# Altium footprint library TI Amplifiers and Linear Special Function Amplifier.PcbLib: 176 footprints (part 6 of 12)
Each footprint in its own frame and in the unit in brackets; x right, y up, seen from the top. Pads: shape width x height; smd on the part's side, far side on the other; paste and mask are expansions set on the pad; w line width, h text height; cw(c..) or ccw(c..) is an arc to the next point about the centre after c.
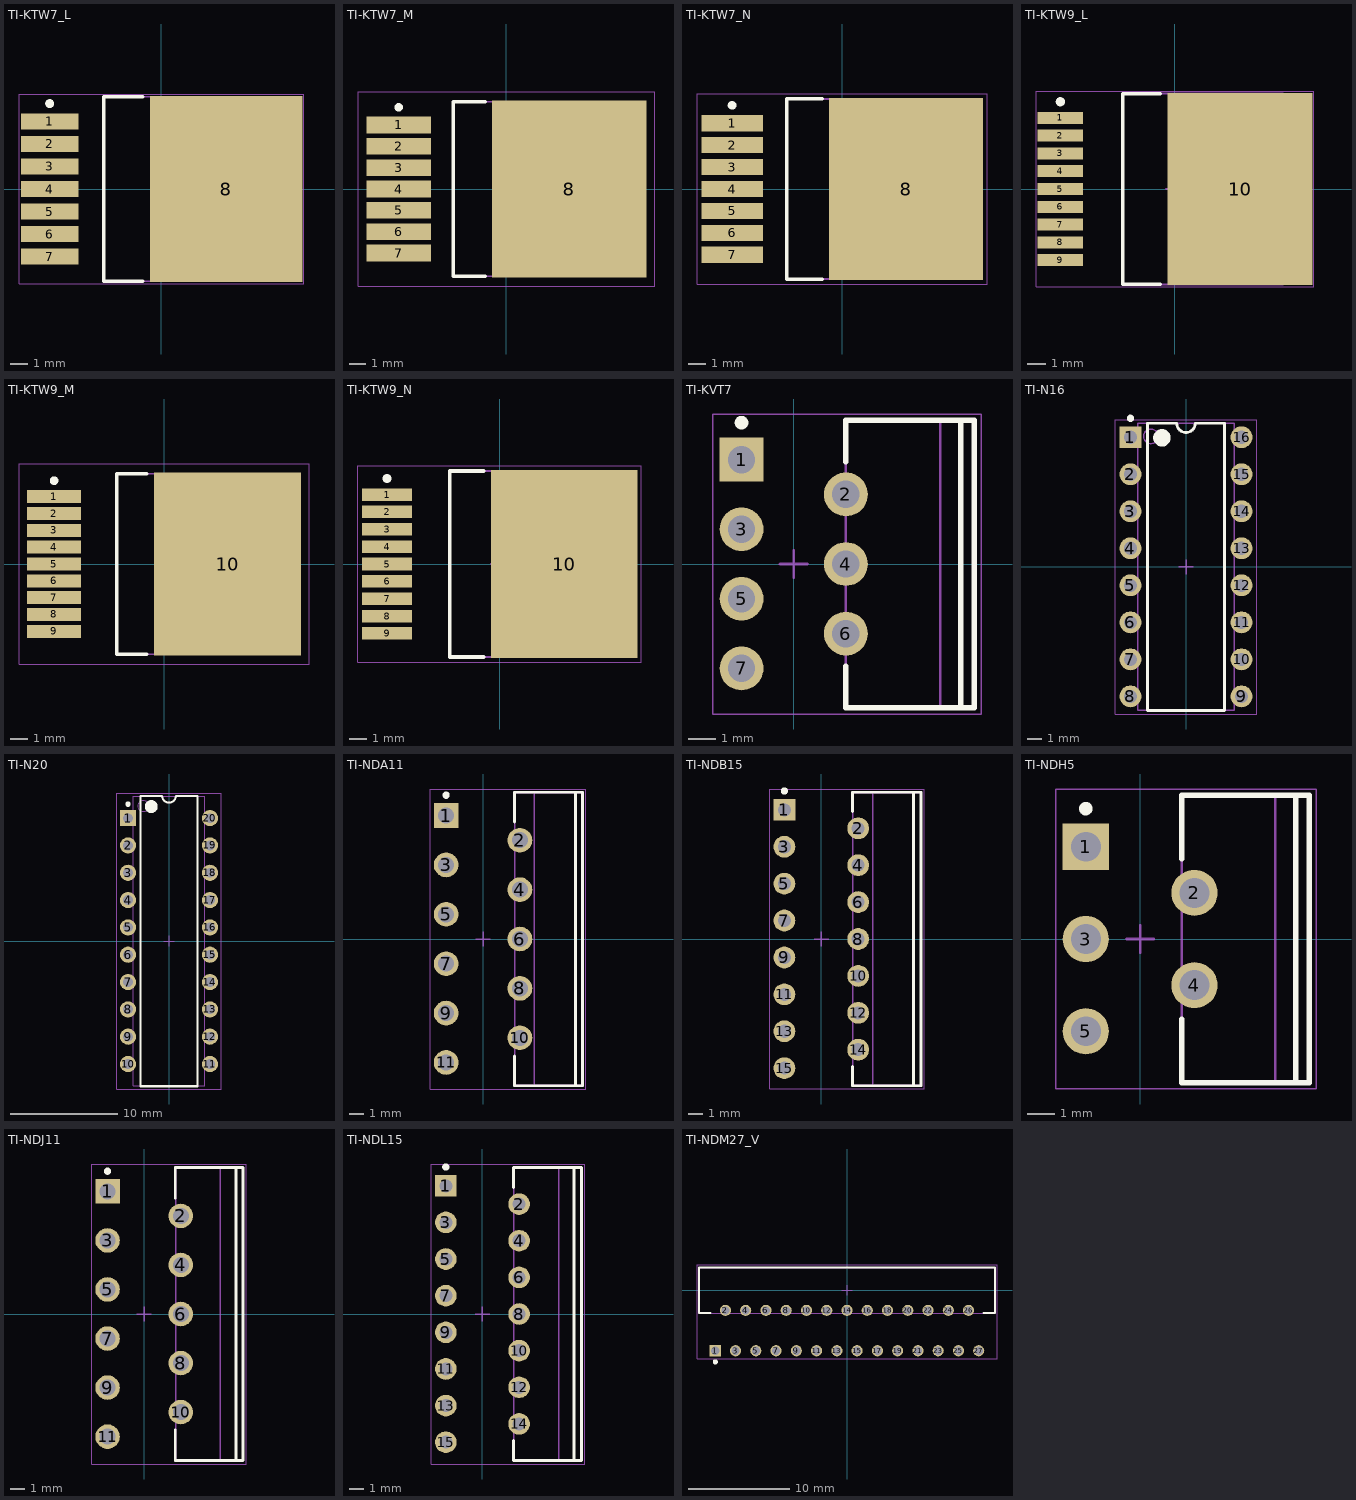
[diagram p5: the footprints below, top view; thin cyan lines are the x and y axes]

## TI-KTW7_L [mm] "DPAK, 7-Leads, Body 9.4x10.4mm, Pitch 1.27mm, IPC High Density"
height 4.96
pads (8):
  rect 3.25x0.9 smd: 1(-6.3,3.81) 2(-6.3,2.54) 3(-6.3,1.27) 4(-6.3,0) 5(-6.3,-1.27) 6(-6.3,-2.54) 7(-6.3,-3.81)
  rect 8.6x10.45 smd: 8(3.65,0)
Top Overlay:
  circle w0.25: c-6.3,4.81 r0.125
  lines w0.2: -1.05,-5.2 -3.25,-5.2 -3.25,5.2 -1.05,5.2
Mechanical 13:
  lines w0.1: -3.25,-5.2 6.15,-5.2 6.15,5.2 -3.25,5.2 -3.25,-5.2
Mechanical 15:
  lines w0.05: -8.025,-5.325 8.025,-5.325 8.025,5.325 -8.025,5.325 -8.025,-5.325
  lines w0.1: -0.5,0 0.5,0 ; 0,-0.5 0,0.5
3D body: height 4.96, standoff 0, extent -3.25,-5.2 6.15,5.2

## TI-KTW7_M [mm] "DPAK, 7-Leads, Body 9.4x10.4mm, Pitch 1.27mm, IPC Low Density"
height 4.96
pads (8):
  rect 3.85x1 smd: 1(-6.4,3.81) 2(-6.4,2.54) 3(-6.4,1.27) 4(-6.4,0) 5(-6.4,-1.27) 6(-6.4,-2.54) 7(-6.4,-3.81)
  rect 9.2x10.55 smd: 8(3.75,0)
Top Overlay:
  circle w0.25: c-6.4,4.86 r0.125
  lines w0.2: -1.25,-5.2 -3.15,-5.2 -3.15,5.2 -1.25,5.2
Mechanical 13:
  lines w0.1: -3.15,-5.2 6.25,-5.2 6.25,5.2 -3.15,5.2 -3.15,-5.2
Mechanical 15:
  lines w0.05: -8.825,-5.775 8.825,-5.775 8.825,5.775 -8.825,5.775 -8.825,-5.775
  lines w0.1: -0.5,0 0.5,0 ; 0,-0.5 0,0.5
3D body: height 4.96, standoff 0, extent -3.15,-5.2 6.25,5.2

## TI-KTW7_N [mm] "DPAK, 7-Leads, Body 9.4x10.4mm, Pitch 1.27mm, IPC Medium Density"
height 4.96
pads (8):
  rect 3.55x0.95 smd: 1(-6.35,3.81) 2(-6.35,2.54) 3(-6.35,1.27) 4(-6.35,0) 5(-6.35,-1.27) 6(-6.35,-2.54) 7(-6.35,-3.81)
  rect 8.9x10.5 smd: 8(3.7,0)
Top Overlay:
  circle w0.25: c-6.35,4.835 r0.125
  lines w0.2: -1.15,-5.2 -3.2,-5.2 -3.2,5.2 -1.15,5.2
Mechanical 13:
  lines w0.1: -3.2,-5.2 -3.2,5.2 6.2,5.2 6.2,-5.2 -3.2,-5.2
Mechanical 15:
  lines w0.05: -8.375,-5.5 -8.375,5.5 8.375,5.5 8.375,-5.5 -8.375,-5.5
  lines w0.1: -0.5,0 0.5,0 ; 0,-0.5 0,0.5
3D body: height 4.96, standoff 0, extent -3.2,-5.2 6.2,5.2

## TI-KTW9_L [mm] "DPAK, 9-Leads, Body 10.16x8.69mm, Pitch 0.97mm, IPC High Density"
height 4.74
pads (10):
  rect 2.5x0.65 smd: 1(-6.25,3.88) 2(-6.25,2.91) 3(-6.25,1.94) 4(-6.25,0.97) 5(-6.25,0) 6(-6.25,-0.97) 7(-6.25,-1.94) 8(-6.25,-2.91) 9(-6.25,-3.88)
  rect 7.9x10.45 smd: 10(3.55,0)
Top Overlay:
  circle w0.25: c-6.25,4.755 r0.125
  lines w0.2: -0.8,-5.2 -2.85,-5.2 -2.85,5.2 -0.8,5.2
Mechanical 13:
  lines w0.1: -2.85,-5.2 -2.85,5.2 5.89,5.2 5.89,-5.2 -2.85,-5.2
Mechanical 15:
  lines w0.05: -7.575,-5.325 -7.575,5.325 7.575,5.325 7.575,-5.325 -7.575,-5.325
  lines w0.1: -0.5,0 0.5,0 ; 0,-0.5 0,0.5
3D body: height 4.74, standoff 0, extent -2.85,-5.2 5.89,5.2

## TI-KTW9_M [mm] "DPAK, 9-Leads, Body 10.16x8.69mm, Pitch 0.97mm, IPC Low Density"
height 4.74
pads (10):
  rect 3.1x0.75 smd: 1(-6.35,3.88) 2(-6.35,2.91) 3(-6.35,1.94) 4(-6.35,0.97) 5(-6.35,0) 6(-6.35,-0.97) 7(-6.35,-1.94) 8(-6.35,-2.91) 9(-6.35,-3.88)
  rect 8.5x10.55 smd: 10(3.65,0)
Top Overlay:
  circle w0.25: c-6.35,4.805 r0.125
  lines w0.2: -1,-5.2 -2.75,-5.2 -2.75,5.2 -1,5.2
Mechanical 13:
  lines w0.1: -2.75,-5.2 -2.75,5.2 5.99,5.2 5.99,-5.2 -2.75,-5.2
Mechanical 15:
  lines w0.05: -8.375,-5.775 -8.375,5.775 8.375,5.775 8.375,-5.775 -8.375,-5.775
  lines w0.1: -0.5,0 0.5,0 ; 0,-0.5 0,0.5
3D body: height 4.74, standoff 0, extent -2.75,-5.2 5.99,5.2

## TI-KTW9_N [mm] "DPAK, 9-Leads, Body 10.16x8.69mm, Pitch 0.97mm, IPC Medium Density"
height 4.74
pads (10):
  rect 2.8x0.7 smd: 1(-6.3,3.88) 2(-6.3,2.91) 3(-6.3,1.94) 4(-6.3,0.97) 5(-6.3,0) 6(-6.3,-0.97) 7(-6.3,-1.94) 8(-6.3,-2.91) 9(-6.3,-3.88)
  rect 8.2x10.5 smd: 10(3.6,0)
Top Overlay:
  circle w0.25: c-6.3,4.78 r0.125
  lines w0.2: -0.9,-5.2 -2.8,-5.2 -2.8,5.2 -0.9,5.2
Mechanical 13:
  lines w0.1: -2.8,-5.2 -2.8,5.2 5.94,5.2 5.94,-5.2 -2.8,-5.2
Mechanical 15:
  lines w0.05: -7.925,-5.5 -7.925,5.5 7.925,5.5 7.925,-5.5 -7.925,-5.5
  lines w0.1: -0.5,0 0.5,0 ; 0,-0.5 0,0.5
3D body: height 4.74, standoff 0, extent -2.8,-5.2 5.94,5.2

## TI-KVT7 [mm] "FM, 7-Leads, Body 10.41 x 4.7mm, Pitch 1.27 mm"
height 21.43
pads (7):
  rect 1.6x1.6 hole 1: 1(-1.905,3.81)
  round 1.6 hole 1: 2(1.905,2.54) 3(-1.905,1.27) 4(1.905,0) 5(-1.905,-1.27) 6(1.905,-2.54) 7(-1.905,-3.81)
Top Overlay:
  circle w0.25: c-1.905,5.16 r0.125
  lines w0.2: 1.895,-3.74 1.895,-5.25 6.595,-5.25 6.595,5.25 1.895,5.25 1.895,3.74 ; 6.095,-5.25 6.095,5.25
Mechanical 13:
  lines w0.1: 5.345,-5.205 5.345,5.205 ; 1.895,-5.205 1.895,5.205 6.595,5.205 6.595,-5.205 1.895,-5.205
Mechanical 15:
  lines w0.05: -2.955,-5.475 -2.955,5.475 6.845,5.475 6.845,-5.475 -2.955,-5.475
  lines w0.1: -0.5,0 0.5,0 ; 0,-0.5 0,0.5
3D body: height 2.43, standoff 0, extent -2.15,3.26 -1.66,4.36
3D body: height 2.92, standoff 2.43, extent -2.15,3.26 4.49,4.36
3D body: height 5.34, standoff 2.92, extent 4,3.26 4.49,4.36
3D body: height 0, standoff -1.6, extent -2.15,3.415 -1.66,4.205
3D body: height 2.43, standoff 0, extent 1.66,1.99 2.15,3.09
3D body: height 2.92, standoff 2.43, extent 1.66,1.99 4.49,3.09
3D body: height 5.34, standoff 2.92, extent 4,1.99 4.49,3.09
3D body: height 0, standoff -1.6, extent 1.66,2.145 2.15,2.935
3D body: height 2.43, standoff 0, extent -2.15,0.72 -1.66,1.82
3D body: height 2.92, standoff 2.43, extent -2.15,0.72 4.49,1.82
3D body: height 5.34, standoff 2.92, extent 4,0.72 4.49,1.82
3D body: height 0, standoff -1.6, extent -2.15,0.875 -1.66,1.665
3D body: height 2.43, standoff 0, extent 1.66,-0.55 2.15,0.55
3D body: height 2.92, standoff 2.43, extent 1.66,-0.55 4.49,0.55
3D body: height 5.34, standoff 2.92, extent 4,-0.55 4.49,0.55
3D body: height 0, standoff -1.6, extent 1.66,-0.395 2.15,0.395
3D body: height 2.43, standoff 0, extent -2.15,-1.82 -1.66,-0.72
3D body: height 2.92, standoff 2.43, extent -2.15,-1.82 4.49,-0.72
3D body: height 5.34, standoff 2.92, extent 4,-1.82 4.49,-0.72
3D body: height 0, standoff -1.6, extent -2.15,-1.665 -1.66,-0.875
3D body: height 2.43, standoff 0, extent 1.66,-3.09 2.15,-1.99
3D body: height 2.92, standoff 2.43, extent 1.66,-3.09 4.49,-1.99
3D body: height 5.34, standoff 2.92, extent 4,-3.09 4.49,-1.99
3D body: height 0, standoff -1.6, extent 1.66,-2.935 2.15,-2.145
3D body: height 2.43, standoff 0, extent -2.15,-4.36 -1.66,-3.26
3D body: height 2.92, standoff 2.43, extent -2.15,-4.36 4.49,-3.26
3D body: height 5.34, standoff 2.92, extent 4,-4.36 4.49,-3.26
3D body: height 0, standoff -1.6, extent -2.15,-4.205 -1.66,-3.415
3D body: height 15.18, standoff 5.34, extent 1.895,-5.225 6.595,5.225
3D body: height 16.76, standoff 15.18, extent 5.345,-5.075 6.595,5.075
3D body: height 16.8, standoff 16.76, extent 5.345,0.376 6.595,5.075
3D body: height 16.8, standoff 16.76, extent 5.345,-5.075 6.595,-0.376
3D body: height 20.61, standoff 20.57, extent 5.345,0.376 6.595,5.075
3D body: height 20.61, standoff 20.57, extent 5.345,-5.075 6.595,-0.376
3D body: height 16.91, standoff 16.79, extent 5.345,0.737 6.595,5.075
3D body: height 16.91, standoff 16.79, extent 5.345,-5.075 6.595,-0.737
3D body: height 20.57, standoff 20.46, extent 5.345,0.737 6.595,5.075
3D body: height 20.57, standoff 20.46, extent 5.345,-5.075 6.595,-0.737
3D body: height 17.08, standoff 16.9, extent 5.345,1.069 6.595,5.075
3D body: height 17.08, standoff 16.9, extent 5.345,-5.075 6.595,-1.069
3D body: height 20.46, standoff 20.28, extent 5.345,1.069 6.595,5.075
3D body: height 20.46, standoff 20.28, extent 5.345,-5.075 6.595,-1.069
3D body: height 17.32, standoff 17.08, extent 5.345,1.361 6.595,5.075
3D body: height 17.32, standoff 17.08, extent 5.345,-5.075 6.595,-1.361
3D body: height 20.29, standoff 20.04, extent 5.345,1.361 6.595,5.075
3D body: height 20.29, standoff 20.04, extent 5.345,-5.075 6.595,-1.361
3D body: height 17.62, standoff 17.32, extent 5.345,1.601 6.595,5.075
3D body: height 17.62, standoff 17.32, extent 5.345,-5.075 6.595,-1.601
3D body: height 20.05, standoff 19.75, extent 5.345,1.601 6.595,5.075
3D body: height 20.05, standoff 19.75, extent 5.345,-5.075 6.595,-1.601
3D body: height 17.95, standoff 17.61, extent 5.345,1.778 6.595,5.075
3D body: height 17.95, standoff 17.61, extent 5.345,-5.075 6.595,-1.778
3D body: height 19.75, standoff 19.42, extent 5.345,1.778 6.595,5.075
3D body: height 19.75, standoff 19.42, extent 5.345,-5.075 6.595,-1.778
3D body: height 18.31, standoff 17.94, extent 5.345,1.888 6.595,5.075
3D body: height 18.31, standoff 17.94, extent 5.345,-5.075 6.595,-1.888
3D body: height 19.42, standoff 19.06, extent 5.345,1.888 6.595,5.075
3D body: height 19.42, standoff 19.06, extent 5.345,-5.075 6.595,-1.888
3D body: height 18.68, standoff 18.3, extent 5.345,1.925 6.595,5.075
3D body: height 18.68, standoff 18.3, extent 5.345,-5.075 6.595,-1.925
3D body: height 19.06, standoff 18.68, extent 5.345,1.925 6.595,5.075
3D body: height 19.06, standoff 18.68, extent 5.345,-5.075 6.595,-1.925
3D body: height 21.43, standoff 20.61, extent 5.345,-5.075 6.595,5.075

## TI-N16 [mm] "DIP, 16-Leads, Body 19.7x6.6mm, Pitch 2.54mm"
height 5.08
pads (16):
  rect 1.5x1.5 hole 0.9: 1(-3.81,8.89)
  round 1.5 hole 0.9: 2(-3.81,6.35) 3(-3.81,3.81) 4(-3.81,1.27) 5(-3.81,-1.27) 6(-3.81,-3.81) 7(-3.81,-6.35) 8(-3.81,-8.89) 9(3.81,-8.89) 10(3.81,-6.35) 11(3.81,-3.81) 12(3.81,-1.27) 13(3.81,1.27) 14(3.81,3.81) 15(3.81,6.35) 16(3.81,8.89)
Top Overlay:
  circle w0.25: c-3.81,10.19 r0.125
  circle w0.6: c-1.65,8.85 r0.3
  lines w0.2: -2.65,-9.85 -2.65,9.85 -0.635,9.85 ccw(c0,9.85) 0.635,9.85 2.65,9.85 2.65,-9.85 -2.65,-9.85
Mechanical 13:
  circle w0.1: c-2.4,8.95 r0.5
  lines w0.1: -3.3,-9.85 -3.3,9.85 3.3,9.85 3.3,-9.85 -3.3,-9.85
Mechanical 15:
  lines w0.05: -4.85,-10.1 -4.85,10.1 4.85,10.1 4.85,-10.1 -4.85,-10.1
  lines w0.1: -0.5,0 0.5,0 ; 0,-0.5 0,0.5
3D body: height 2.66, standoff 0, extent -3.945,8.39 -3.675,9.39
3D body: height 2.93, standoff 2.66, extent -3.945,8.39 -3.3,9.39
3D body: height 0, standoff -1.6, extent -3.945,8.53 -3.675,9.25
3D body: height 2.66, standoff 0, extent -3.945,5.85 -3.675,6.85
3D body: height 2.93, standoff 2.66, extent -3.945,5.85 -3.3,6.85
3D body: height 0, standoff -1.6, extent -3.945,5.99 -3.675,6.71
3D body: height 2.66, standoff 0, extent -3.945,3.31 -3.675,4.31
3D body: height 2.93, standoff 2.66, extent -3.945,3.31 -3.3,4.31
3D body: height 0, standoff -1.6, extent -3.945,3.45 -3.675,4.17
3D body: height 2.66, standoff 0, extent -3.945,0.77 -3.675,1.77
3D body: height 2.93, standoff 2.66, extent -3.945,0.77 -3.3,1.77
3D body: height 0, standoff -1.6, extent -3.945,0.91 -3.675,1.63
3D body: height 2.66, standoff 0, extent -3.945,-1.77 -3.675,-0.77
3D body: height 2.93, standoff 2.66, extent -3.945,-1.77 -3.3,-0.77
3D body: height 0, standoff -1.6, extent -3.945,-1.63 -3.675,-0.91
3D body: height 2.66, standoff 0, extent -3.945,-4.31 -3.675,-3.31
3D body: height 2.93, standoff 2.66, extent -3.945,-4.31 -3.3,-3.31
3D body: height 0, standoff -1.6, extent -3.945,-4.17 -3.675,-3.45
3D body: height 2.66, standoff 0, extent -3.945,-6.85 -3.675,-5.85
3D body: height 2.93, standoff 2.66, extent -3.945,-6.85 -3.3,-5.85
3D body: height 0, standoff -1.6, extent -3.945,-6.71 -3.675,-5.99
3D body: height 2.66, standoff 0, extent -3.945,-9.39 -3.675,-8.39
3D body: height 2.93, standoff 2.66, extent -3.945,-9.39 -3.3,-8.39
3D body: height 0, standoff -1.6, extent -3.945,-9.25 -3.675,-8.53
3D body: height 2.66, standoff 0, extent 3.675,-9.39 3.945,-8.39
3D body: height 2.93, standoff 2.66, extent 3.3,-9.39 3.945,-8.39
3D body: height 0, standoff -1.6, extent 3.675,-9.25 3.945,-8.53
3D body: height 2.66, standoff 0, extent 3.675,-6.85 3.945,-5.85
3D body: height 2.93, standoff 2.66, extent 3.3,-6.85 3.945,-5.85
3D body: height 0, standoff -1.6, extent 3.675,-6.71 3.945,-5.99
3D body: height 2.66, standoff 0, extent 3.675,-4.31 3.945,-3.31
3D body: height 2.93, standoff 2.66, extent 3.3,-4.31 3.945,-3.31
3D body: height 0, standoff -1.6, extent 3.675,-4.17 3.945,-3.45
3D body: height 2.66, standoff 0, extent 3.675,-1.77 3.945,-0.77
3D body: height 2.93, standoff 2.66, extent 3.3,-1.77 3.945,-0.77
3D body: height 0, standoff -1.6, extent 3.675,-1.63 3.945,-0.91
3D body: height 2.66, standoff 0, extent 3.675,0.77 3.945,1.77
3D body: height 2.93, standoff 2.66, extent 3.3,0.77 3.945,1.77
3D body: height 0, standoff -1.6, extent 3.675,0.91 3.945,1.63
3D body: height 2.66, standoff 0, extent 3.675,3.31 3.945,4.31
3D body: height 2.93, standoff 2.66, extent 3.3,3.31 3.945,4.31
3D body: height 0, standoff -1.6, extent 3.675,3.45 3.945,4.17
3D body: height 2.66, standoff 0, extent 3.675,5.85 3.945,6.85
3D body: height 2.93, standoff 2.66, extent 3.3,5.85 3.945,6.85
3D body: height 0, standoff -1.6, extent 3.675,5.99 3.945,6.71
3D body: height 2.66, standoff 0, extent 3.675,8.39 3.945,9.39
3D body: height 2.93, standoff 2.66, extent 3.3,8.39 3.945,9.39
3D body: height 0, standoff -1.6, extent 3.675,8.53 3.945,9.25
3D body: height 5.08, standoff 0.51, extent -3.3,-9.85 3.3,9.85

## TI-N20 [mm] "DIP, 20-Leads, Body 25.4x6.35 mm, Pitch 2.54 mm"
height 5.08
pads (20):
  rect 1.5x1.5 hole 0.9: 1(-3.81,11.43)
  round 1.5 hole 0.9: 2(-3.81,8.89) 3(-3.81,6.35) 4(-3.81,3.81) 5(-3.81,1.27) 6(-3.81,-1.27) 7(-3.81,-3.81) 8(-3.81,-6.35) 9(-3.81,-8.89) 10(-3.81,-11.43) 11(3.81,-11.43) 12(3.81,-8.89) 13(3.81,-6.35) 14(3.81,-3.81) 15(3.81,-1.27) 16(3.81,1.27) 17(3.81,3.81) 18(3.81,6.35) 19(3.81,8.89) 20(3.81,11.43)
Top Overlay:
  circle w0.25: c-3.81,12.73 r0.125
  circle w0.6: c-1.65,12.5 r0.3
  lines w0.2: -2.65,-13.5 -2.65,13.5 -0.635,13.5 ccw(c0,13.5) 0.635,13.5 2.65,13.5 2.65,-13.5 -2.65,-13.5
Mechanical 13:
  circle w0.1: c-2.4,12.55 r0.5
  lines w0.1: -3.3,-13.45 -3.3,13.45 3.3,13.45 3.3,-13.45 -3.3,-13.45
Mechanical 15:
  lines w0.05: -4.85,-13.75 -4.85,13.75 4.85,13.75 4.85,-13.75 -4.85,-13.75
  lines w0.1: -0.5,0 0.5,0 ; 0,-0.5 0,0.5
3D body: height 2.66, standoff 0, extent -3.945,10.93 -3.675,11.93
3D body: height 2.93, standoff 2.66, extent -3.945,10.93 -3.3,11.93
3D body: height 0, standoff -1.6, extent -3.945,11.07 -3.675,11.79
3D body: height 2.66, standoff 0, extent -3.945,8.39 -3.675,9.39
3D body: height 2.93, standoff 2.66, extent -3.945,8.39 -3.3,9.39
3D body: height 0, standoff -1.6, extent -3.945,8.53 -3.675,9.25
3D body: height 2.66, standoff 0, extent -3.945,5.85 -3.675,6.85
3D body: height 2.93, standoff 2.66, extent -3.945,5.85 -3.3,6.85
3D body: height 0, standoff -1.6, extent -3.945,5.99 -3.675,6.71
3D body: height 2.66, standoff 0, extent -3.945,3.31 -3.675,4.31
3D body: height 2.93, standoff 2.66, extent -3.945,3.31 -3.3,4.31
3D body: height 0, standoff -1.6, extent -3.945,3.45 -3.675,4.17
3D body: height 2.66, standoff 0, extent -3.945,0.77 -3.675,1.77
3D body: height 2.93, standoff 2.66, extent -3.945,0.77 -3.3,1.77
3D body: height 0, standoff -1.6, extent -3.945,0.91 -3.675,1.63
3D body: height 2.66, standoff 0, extent -3.945,-1.77 -3.675,-0.77
3D body: height 2.93, standoff 2.66, extent -3.945,-1.77 -3.3,-0.77
3D body: height 0, standoff -1.6, extent -3.945,-1.63 -3.675,-0.91
3D body: height 2.66, standoff 0, extent -3.945,-4.31 -3.675,-3.31
3D body: height 2.93, standoff 2.66, extent -3.945,-4.31 -3.3,-3.31
3D body: height 0, standoff -1.6, extent -3.945,-4.17 -3.675,-3.45
3D body: height 2.66, standoff 0, extent -3.945,-6.85 -3.675,-5.85
3D body: height 2.93, standoff 2.66, extent -3.945,-6.85 -3.3,-5.85
3D body: height 0, standoff -1.6, extent -3.945,-6.71 -3.675,-5.99
3D body: height 2.66, standoff 0, extent -3.945,-9.39 -3.675,-8.39
3D body: height 2.93, standoff 2.66, extent -3.945,-9.39 -3.3,-8.39
3D body: height 0, standoff -1.6, extent -3.945,-9.25 -3.675,-8.53
3D body: height 2.66, standoff 0, extent -3.945,-11.93 -3.675,-10.93
3D body: height 2.93, standoff 2.66, extent -3.945,-11.93 -3.3,-10.93
3D body: height 0, standoff -1.6, extent -3.945,-11.79 -3.675,-11.07
3D body: height 2.66, standoff 0, extent 3.675,-11.93 3.945,-10.93
3D body: height 2.93, standoff 2.66, extent 3.3,-11.93 3.945,-10.93
3D body: height 0, standoff -1.6, extent 3.675,-11.79 3.945,-11.07
3D body: height 2.66, standoff 0, extent 3.675,-9.39 3.945,-8.39
3D body: height 2.93, standoff 2.66, extent 3.3,-9.39 3.945,-8.39
3D body: height 0, standoff -1.6, extent 3.675,-9.25 3.945,-8.53
3D body: height 2.66, standoff 0, extent 3.675,-6.85 3.945,-5.85
3D body: height 2.93, standoff 2.66, extent 3.3,-6.85 3.945,-5.85
3D body: height 0, standoff -1.6, extent 3.675,-6.71 3.945,-5.99
3D body: height 2.66, standoff 0, extent 3.675,-4.31 3.945,-3.31
3D body: height 2.93, standoff 2.66, extent 3.3,-4.31 3.945,-3.31
3D body: height 0, standoff -1.6, extent 3.675,-4.17 3.945,-3.45
3D body: height 2.66, standoff 0, extent 3.675,-1.77 3.945,-0.77
3D body: height 2.93, standoff 2.66, extent 3.3,-1.77 3.945,-0.77
3D body: height 0, standoff -1.6, extent 3.675,-1.63 3.945,-0.91
3D body: height 2.66, standoff 0, extent 3.675,0.77 3.945,1.77
3D body: height 2.93, standoff 2.66, extent 3.3,0.77 3.945,1.77
3D body: height 0, standoff -1.6, extent 3.675,0.91 3.945,1.63
3D body: height 2.66, standoff 0, extent 3.675,3.31 3.945,4.31
3D body: height 2.93, standoff 2.66, extent 3.3,3.31 3.945,4.31
3D body: height 0, standoff -1.6, extent 3.675,3.45 3.945,4.17
3D body: height 2.66, standoff 0, extent 3.675,5.85 3.945,6.85
3D body: height 2.93, standoff 2.66, extent 3.3,5.85 3.945,6.85
3D body: height 0, standoff -1.6, extent 3.675,5.99 3.945,6.71
3D body: height 2.66, standoff 0, extent 3.675,8.39 3.945,9.39
3D body: height 2.93, standoff 2.66, extent 3.3,8.39 3.945,9.39
3D body: height 0, standoff -1.6, extent 3.675,8.53 3.945,9.25
3D body: height 2.66, standoff 0, extent 3.675,10.93 3.945,11.93
3D body: height 2.93, standoff 2.66, extent 3.3,10.93 3.945,11.93
3D body: height 0, standoff -1.6, extent 3.675,11.07 3.945,11.79
3D body: height 5.08, standoff 0.51, extent -3.3,-13.45 3.3,13.45

## TI-NDA11 [mm] "FM, 11-Leads, Body 20.02x4.5mm, Pitch 1.7mm"
height 23.02
pads (11):
  rect 1.7x1.7 hole 1.1: 1(-2.54,8.5)
  round 1.7 hole 1.1: 2(2.54,6.8) 3(-2.54,5.1) 4(2.54,3.4) 5(-2.54,1.7) 6(2.54,0) 7(-2.54,-1.7) 8(2.54,-3.4) 9(-2.54,-5.1) 10(2.54,-6.8) 11(-2.54,-8.5)
Top Overlay:
  circle w0.25: c-2.54,9.9 r0.125
  lines w0.2: 2.155,-8.05 2.155,-10.1 6.855,-10.1 6.855,10.1 2.155,10.1 2.155,8.05 ; 6.355,-10.1 6.355,10.1
Mechanical 13:
  lines w0.1: 3.53,-10.075 3.53,10.075 ; 2.18,-10.075 2.18,10.075 6.83,10.075 6.83,-10.075 2.18,-10.075
Mechanical 15:
  lines w0.05: -3.64,-10.325 -3.64,10.325 7.08,10.325 7.08,-10.325 -3.64,-10.325
  lines w0.1: -0.5,0 0.5,0 ; 0,-0.5 0,0.5
3D body: height 1.08, standoff 0, extent -2.755,7.9 -2.325,9.1
3D body: height 1.51, standoff 1.08, extent -2.755,7.9 4.72,9.1
3D body: height 2.58, standoff 1.51, extent 4.29,7.9 4.72,9.1
3D body: height 0, standoff -1.6, extent -2.755,8.025 -2.325,8.975
3D body: height 1.08, standoff 0, extent 2.325,6.2 2.755,7.4
3D body: height 1.51, standoff 1.08, extent 2.325,6.2 4.72,7.4
3D body: height 2.58, standoff 1.51, extent 4.29,6.2 4.72,7.4
3D body: height 0, standoff -1.6, extent 2.325,6.325 2.755,7.275
3D body: height 1.08, standoff 0, extent -2.755,4.5 -2.325,5.7
3D body: height 1.51, standoff 1.08, extent -2.755,4.5 4.72,5.7
3D body: height 2.58, standoff 1.51, extent 4.29,4.5 4.72,5.7
3D body: height 0, standoff -1.6, extent -2.755,4.625 -2.325,5.575
3D body: height 1.08, standoff 0, extent 2.325,2.8 2.755,4
3D body: height 1.51, standoff 1.08, extent 2.325,2.8 4.72,4
3D body: height 2.58, standoff 1.51, extent 4.29,2.8 4.72,4
3D body: height 0, standoff -1.6, extent 2.325,2.925 2.755,3.875
3D body: height 1.08, standoff 0, extent -2.755,1.1 -2.325,2.3
3D body: height 1.51, standoff 1.08, extent -2.755,1.1 4.72,2.3
3D body: height 2.58, standoff 1.51, extent 4.29,1.1 4.72,2.3
3D body: height 0, standoff -1.6, extent -2.755,1.225 -2.325,2.175
3D body: height 1.08, standoff 0, extent 2.325,-0.6 2.755,0.6
3D body: height 1.51, standoff 1.08, extent 2.325,-0.6 4.72,0.6
3D body: height 2.58, standoff 1.51, extent 4.29,-0.6 4.72,0.6
3D body: height 0, standoff -1.6, extent 2.325,-0.475 2.755,0.475
3D body: height 1.08, standoff 0, extent -2.755,-2.3 -2.325,-1.1
3D body: height 1.51, standoff 1.08, extent -2.755,-2.3 4.72,-1.1
3D body: height 2.58, standoff 1.51, extent 4.29,-2.3 4.72,-1.1
3D body: height 0, standoff -1.6, extent -2.755,-2.175 -2.325,-1.225
3D body: height 1.08, standoff 0, extent 2.325,-4 2.755,-2.8
3D body: height 1.51, standoff 1.08, extent 2.325,-4 4.72,-2.8
3D body: height 2.58, standoff 1.51, extent 4.29,-4 4.72,-2.8
3D body: height 0, standoff -1.6, extent 2.325,-3.875 2.755,-2.925
3D body: height 1.08, standoff 0, extent -2.755,-5.7 -2.325,-4.5
3D body: height 1.51, standoff 1.08, extent -2.755,-5.7 4.72,-4.5
3D body: height 2.58, standoff 1.51, extent 4.29,-5.7 4.72,-4.5
3D body: height 0, standoff -1.6, extent -2.755,-5.575 -2.325,-4.625
3D body: height 1.08, standoff 0, extent 2.325,-7.4 2.755,-6.2
3D body: height 1.51, standoff 1.08, extent 2.325,-7.4 4.72,-6.2
3D body: height 2.58, standoff 1.51, extent 4.29,-7.4 4.72,-6.2
3D body: height 0, standoff -1.6, extent 2.325,-7.275 2.755,-6.325
3D body: height 1.08, standoff 0, extent -2.755,-9.1 -2.325,-7.9
3D body: height 1.51, standoff 1.08, extent -2.755,-9.1 4.72,-7.9
3D body: height 2.58, standoff 1.51, extent 4.29,-9.1 4.72,-7.9
3D body: height 0, standoff -1.6, extent -2.755,-8.975 -2.325,-8.025
3D body: height 14.07, standoff 2.58, extent 2.18,-10.075 6.83,10.075
3D body: height 16.2, standoff 14.07, extent 3.53,-10.075 6.83,10.075
3D body: height 16.24, standoff 16.2, extent 3.53,0.376 6.83,10.075
3D body: height 16.24, standoff 16.2, extent 3.53,-10.075 6.83,-0.376
3D body: height 20.05, standoff 20.01, extent 3.53,0.376 6.83,10.075
3D body: height 20.05, standoff 20.01, extent 3.53,-10.075 6.83,-0.376
3D body: height 16.35, standoff 16.23, extent 3.53,0.737 6.83,10.075
3D body: height 16.35, standoff 16.23, extent 3.53,-10.075 6.83,-0.737
3D body: height 20.01, standoff 19.9, extent 3.53,0.737 6.83,10.075
3D body: height 20.01, standoff 19.9, extent 3.53,-10.075 6.83,-0.737
3D body: height 16.52, standoff 16.34, extent 3.53,1.069 6.83,10.075
3D body: height 16.52, standoff 16.34, extent 3.53,-10.075 6.83,-1.069
3D body: height 19.9, standoff 19.72, extent 3.53,1.069 6.83,10.075
3D body: height 19.9, standoff 19.72, extent 3.53,-10.075 6.83,-1.069
3D body: height 16.76, standoff 16.52, extent 3.53,1.361 6.83,10.075
3D body: height 16.76, standoff 16.52, extent 3.53,-10.075 6.83,-1.361
3D body: height 19.73, standoff 19.48, extent 3.53,1.361 6.83,10.075
3D body: height 19.73, standoff 19.48, extent 3.53,-10.075 6.83,-1.361
3D body: height 17.06, standoff 16.76, extent 3.53,1.601 6.83,10.075
3D body: height 17.06, standoff 16.76, extent 3.53,-10.075 6.83,-1.601
3D body: height 19.49, standoff 19.19, extent 3.53,1.601 6.83,10.075
3D body: height 19.49, standoff 19.19, extent 3.53,-10.075 6.83,-1.601
3D body: height 17.39, standoff 17.05, extent 3.53,1.778 6.83,10.075
3D body: height 17.39, standoff 17.05, extent 3.53,-10.075 6.83,-1.778
3D body: height 19.19, standoff 18.86, extent 3.53,1.778 6.83,10.075
3D body: height 19.19, standoff 18.86, extent 3.53,-10.075 6.83,-1.778
3D body: height 17.75, standoff 17.38, extent 3.53,1.888 6.83,10.075
3D body: height 17.75, standoff 17.38, extent 3.53,-10.075 6.83,-1.888
3D body: height 18.86, standoff 18.5, extent 3.53,1.888 6.83,10.075
3D body: height 18.86, standoff 18.5, extent 3.53,-10.075 6.83,-1.888
3D body: height 18.12, standoff 17.74, extent 3.53,1.925 6.83,10.075
3D body: height 18.12, standoff 17.74, extent 3.53,-10.075 6.83,-1.925
3D body: height 18.5, standoff 18.12, extent 3.53,1.925 6.83,10.075
3D body: height 18.5, standoff 18.12, extent 3.53,-10.075 6.83,-1.925
3D body: height 23.02, standoff 20.05, extent 3.53,-10.075 6.83,10.075

## TI-NDB15 [mm] "FM, 15-Leads, Body 20.02x4.5mm, Pitch 1.27mm"
height 23.02
pads (15):
  rect 1.5x1.5 hole 0.9: 1(-2.54,8.89)
  round 1.5 hole 0.9: 2(2.54,7.62) 3(-2.54,6.35) 4(2.54,5.08) 5(-2.54,3.81) 6(2.54,2.54) 7(-2.54,1.27) 8(2.54,0) 9(-2.54,-1.27) 10(2.54,-2.54) 11(-2.54,-3.81) 12(2.54,-5.08) 13(-2.54,-6.35) 14(2.54,-7.62) 15(-2.54,-8.89)
Top Overlay:
  circle w0.25: c-2.54,10.19 r0.125
  lines w0.2: 2.155,-8.77 2.155,-10.1 6.855,-10.1 6.855,10.1 2.155,10.1 2.155,8.77 ; 6.355,-10.1 6.355,10.1
Mechanical 13:
  lines w0.1: 3.53,-10.075 3.53,10.075 ; 2.18,-10.075 2.18,10.075 6.83,10.075 6.83,-10.075 2.18,-10.075
Mechanical 15:
  lines w0.05: -3.54,-10.325 -3.54,10.325 7.08,10.325 7.08,-10.325 -3.54,-10.325
  lines w0.1: -0.5,0 0.5,0 ; 0,-0.5 0,0.5
3D body: height 1.08, standoff 0, extent -2.755,8.39 -2.325,9.39
3D body: height 1.51, standoff 1.08, extent -2.755,8.39 4.72,9.39
3D body: height 2.58, standoff 1.51, extent 4.29,8.39 4.72,9.39
3D body: height 0, standoff -1.6, extent -2.755,8.545 -2.325,9.235
3D body: height 1.08, standoff 0, extent 2.325,7.12 2.755,8.12
3D body: height 1.51, standoff 1.08, extent 2.325,7.12 4.72,8.12
3D body: height 2.58, standoff 1.51, extent 4.29,7.12 4.72,8.12
3D body: height 0, standoff -1.6, extent 2.325,7.275 2.755,7.965
3D body: height 1.08, standoff 0, extent -2.755,5.85 -2.325,6.85
3D body: height 1.51, standoff 1.08, extent -2.755,5.85 4.72,6.85
3D body: height 2.58, standoff 1.51, extent 4.29,5.85 4.72,6.85
3D body: height 0, standoff -1.6, extent -2.755,6.005 -2.325,6.695
3D body: height 1.08, standoff 0, extent 2.325,4.58 2.755,5.58
3D body: height 1.51, standoff 1.08, extent 2.325,4.58 4.72,5.58
3D body: height 2.58, standoff 1.51, extent 4.29,4.58 4.72,5.58
3D body: height 0, standoff -1.6, extent 2.325,4.735 2.755,5.425
3D body: height 1.08, standoff 0, extent -2.755,3.31 -2.325,4.31
3D body: height 1.51, standoff 1.08, extent -2.755,3.31 4.72,4.31
3D body: height 2.58, standoff 1.51, extent 4.29,3.31 4.72,4.31
3D body: height 0, standoff -1.6, extent -2.755,3.465 -2.325,4.155
3D body: height 1.08, standoff 0, extent 2.325,2.04 2.755,3.04
3D body: height 1.51, standoff 1.08, extent 2.325,2.04 4.72,3.04
3D body: height 2.58, standoff 1.51, extent 4.29,2.04 4.72,3.04
3D body: height 0, standoff -1.6, extent 2.325,2.195 2.755,2.885
3D body: height 1.08, standoff 0, extent -2.755,0.77 -2.325,1.77
3D body: height 1.51, standoff 1.08, extent -2.755,0.77 4.72,1.77
3D body: height 2.58, standoff 1.51, extent 4.29,0.77 4.72,1.77
3D body: height 0, standoff -1.6, extent -2.755,0.925 -2.325,1.615
3D body: height 1.08, standoff 0, extent 2.325,-0.5 2.755,0.5
3D body: height 1.51, standoff 1.08, extent 2.325,-0.5 4.72,0.5
3D body: height 2.58, standoff 1.51, extent 4.29,-0.5 4.72,0.5
3D body: height 0, standoff -1.6, extent 2.325,-0.345 2.755,0.345
3D body: height 1.08, standoff 0, extent -2.755,-1.77 -2.325,-0.77
3D body: height 1.51, standoff 1.08, extent -2.755,-1.77 4.72,-0.77
3D body: height 2.58, standoff 1.51, extent 4.29,-1.77 4.72,-0.77
3D body: height 0, standoff -1.6, extent -2.755,-1.615 -2.325,-0.925
3D body: height 1.08, standoff 0, extent 2.325,-3.04 2.755,-2.04
3D body: height 1.51, standoff 1.08, extent 2.325,-3.04 4.72,-2.04
3D body: height 2.58, standoff 1.51, extent 4.29,-3.04 4.72,-2.04
3D body: height 0, standoff -1.6, extent 2.325,-2.885 2.755,-2.195
3D body: height 1.08, standoff 0, extent -2.755,-4.31 -2.325,-3.31
3D body: height 1.51, standoff 1.08, extent -2.755,-4.31 4.72,-3.31
3D body: height 2.58, standoff 1.51, extent 4.29,-4.31 4.72,-3.31
3D body: height 0, standoff -1.6, extent -2.755,-4.155 -2.325,-3.465
3D body: height 1.08, standoff 0, extent 2.325,-5.58 2.755,-4.58
3D body: height 1.51, standoff 1.08, extent 2.325,-5.58 4.72,-4.58
3D body: height 2.58, standoff 1.51, extent 4.29,-5.58 4.72,-4.58
3D body: height 0, standoff -1.6, extent 2.325,-5.425 2.755,-4.735
3D body: height 1.08, standoff 0, extent -2.755,-6.85 -2.325,-5.85
3D body: height 1.51, standoff 1.08, extent -2.755,-6.85 4.72,-5.85
3D body: height 2.58, standoff 1.51, extent 4.29,-6.85 4.72,-5.85
3D body: height 0, standoff -1.6, extent -2.755,-6.695 -2.325,-6.005
3D body: height 1.08, standoff 0, extent 2.325,-8.12 2.755,-7.12
3D body: height 1.51, standoff 1.08, extent 2.325,-8.12 4.72,-7.12
3D body: height 2.58, standoff 1.51, extent 4.29,-8.12 4.72,-7.12
3D body: height 0, standoff -1.6, extent 2.325,-7.965 2.755,-7.275
3D body: height 1.08, standoff 0, extent -2.755,-9.39 -2.325,-8.39
3D body: height 1.51, standoff 1.08, extent -2.755,-9.39 4.72,-8.39
3D body: height 2.58, standoff 1.51, extent 4.29,-9.39 4.72,-8.39
3D body: height 0, standoff -1.6, extent -2.755,-9.235 -2.325,-8.545
3D body: height 14.07, standoff 2.58, extent 2.18,-10.075 6.83,10.075
3D body: height 16.2, standoff 14.07, extent 3.53,-10 6.83,10
3D body: height 16.24, standoff 16.2, extent 3.53,0.376 6.83,10
3D body: height 16.24, standoff 16.2, extent 3.53,-10 6.83,-0.376
3D body: height 20.05, standoff 20.01, extent 3.53,0.376 6.83,10
3D body: height 20.05, standoff 20.01, extent 3.53,-10 6.83,-0.376
3D body: height 16.35, standoff 16.23, extent 3.53,0.737 6.83,10
3D body: height 16.35, standoff 16.23, extent 3.53,-10 6.83,-0.737
3D body: height 20.01, standoff 19.9, extent 3.53,0.737 6.83,10
3D body: height 20.01, standoff 19.9, extent 3.53,-10 6.83,-0.737
3D body: height 16.52, standoff 16.34, extent 3.53,1.069 6.83,10
3D body: height 16.52, standoff 16.34, extent 3.53,-10 6.83,-1.069
3D body: height 19.9, standoff 19.72, extent 3.53,1.069 6.83,10
3D body: height 19.9, standoff 19.72, extent 3.53,-10 6.83,-1.069
3D body: height 16.76, standoff 16.52, extent 3.53,1.361 6.83,10
3D body: height 16.76, standoff 16.52, extent 3.53,-10 6.83,-1.361
3D body: height 19.73, standoff 19.48, extent 3.53,1.361 6.83,10
3D body: height 19.73, standoff 19.48, extent 3.53,-10 6.83,-1.361
3D body: height 17.06, standoff 16.76, extent 3.53,1.601 6.83,10
3D body: height 17.06, standoff 16.76, extent 3.53,-10 6.83,-1.601
3D body: height 19.49, standoff 19.19, extent 3.53,1.601 6.83,10
3D body: height 19.49, standoff 19.19, extent 3.53,-10 6.83,-1.601
3D body: height 17.39, standoff 17.05, extent 3.53,1.778 6.83,10
3D body: height 17.39, standoff 17.05, extent 3.53,-10 6.83,-1.778
3D body: height 19.19, standoff 18.86, extent 3.53,1.778 6.83,10
3D body: height 19.19, standoff 18.86, extent 3.53,-10 6.83,-1.778
3D body: height 17.75, standoff 17.38, extent 3.53,1.888 6.83,10
3D body: height 17.75, standoff 17.38, extent 3.53,-10 6.83,-1.888
3D body: height 18.86, standoff 18.5, extent 3.53,1.888 6.83,10
3D body: height 18.86, standoff 18.5, extent 3.53,-10 6.83,-1.888
3D body: height 18.12, standoff 17.74, extent 3.53,1.925 6.83,10
3D body: height 18.12, standoff 17.74, extent 3.53,-10 6.83,-1.925
3D body: height 18.5, standoff 18.12, extent 3.53,1.925 6.83,10
3D body: height 18.5, standoff 18.12, extent 3.53,-10 6.83,-1.925
3D body: height 23.02, standoff 20.05, extent 3.53,-10 6.83,10

## TI-NDH5 [mm] "FM, 5-Leads, Body 10.55x4.7mm, Pitch 1.7mm"
height 20.92
pads (5):
  rect 1.7x1.7 hole 1.1: 1(-2,3.4)
  round 1.7 hole 1.1: 2(2,1.7) 3(-2,0) 4(2,-1.7) 5(-2,-3.4)
Top Overlay:
  circle w0.25: c-2,4.8 r0.125
  lines w0.2: 1.53,-2.95 1.53,-5.3 6.23,-5.3 6.23,5.3 1.53,5.3 1.53,2.95 ; 5.73,-5.3 5.73,5.3
Mechanical 13:
  lines w0.1: 4.98,-5.275 4.98,5.275 ; 1.53,-5.275 6.23,-5.275 6.23,5.275 1.53,5.275 1.53,-5.275
Mechanical 15:
  lines w0.05: -3.1,-5.525 6.48,-5.525 6.48,5.525 -3.1,5.525 -3.1,-5.525
  lines w0.1: -0.5,0 0.5,0 ; 0,-0.5 0,0.5
3D body: height 20.92, standoff 20.05, extent 4.98,-5.275 6.23,5.275
3D body: height 18.5, standoff 18.12, extent 4.98,-5.275 6.23,-1.925
3D body: height 18.5, standoff 18.12, extent 4.98,1.925 6.23,5.275
3D body: height 18.12, standoff 17.74, extent 4.98,-5.275 6.23,-1.925
3D body: height 18.12, standoff 17.74, extent 4.98,1.925 6.23,5.275
3D body: height 18.86, standoff 18.5, extent 4.98,-5.275 6.23,-1.888
3D body: height 18.86, standoff 18.5, extent 4.98,1.888 6.23,5.275
3D body: height 17.75, standoff 17.38, extent 4.98,-5.275 6.23,-1.888
3D body: height 17.75, standoff 17.38, extent 4.98,1.888 6.23,5.275
3D body: height 19.19, standoff 18.86, extent 4.98,-5.275 6.23,-1.778
3D body: height 19.19, standoff 18.86, extent 4.98,1.778 6.23,5.275
3D body: height 17.39, standoff 17.05, extent 4.98,-5.275 6.23,-1.778
3D body: height 17.39, standoff 17.05, extent 4.98,1.778 6.23,5.275
3D body: height 19.49, standoff 19.19, extent 4.98,-5.275 6.23,-1.601
3D body: height 19.49, standoff 19.19, extent 4.98,1.601 6.23,5.275
3D body: height 17.06, standoff 16.76, extent 4.98,-5.275 6.23,-1.601
3D body: height 17.06, standoff 16.76, extent 4.98,1.601 6.23,5.275
3D body: height 19.73, standoff 19.48, extent 4.98,-5.275 6.23,-1.361
3D body: height 19.73, standoff 19.48, extent 4.98,1.361 6.23,5.275
3D body: height 16.76, standoff 16.52, extent 4.98,-5.275 6.23,-1.361
3D body: height 16.76, standoff 16.52, extent 4.98,1.361 6.23,5.275
3D body: height 19.9, standoff 19.72, extent 4.98,-5.275 6.23,-1.069
3D body: height 19.9, standoff 19.72, extent 4.98,1.069 6.23,5.275
3D body: height 16.52, standoff 16.34, extent 4.98,-5.275 6.23,-1.069
3D body: height 16.52, standoff 16.34, extent 4.98,1.069 6.23,5.275
3D body: height 20.01, standoff 19.9, extent 4.98,-5.275 6.23,-0.737
3D body: height 20.01, standoff 19.9, extent 4.98,0.737 6.23,5.275
3D body: height 16.35, standoff 16.23, extent 4.98,-5.275 6.23,-0.737
3D body: height 16.35, standoff 16.23, extent 4.98,0.737 6.23,5.275
3D body: height 20.05, standoff 20.01, extent 4.98,-5.275 6.23,-0.376
3D body: height 20.05, standoff 20.01, extent 4.98,0.376 6.23,5.275
3D body: height 16.24, standoff 16.2, extent 4.98,-5.275 6.23,-0.376
3D body: height 16.24, standoff 16.2, extent 4.98,0.376 6.23,5.275
3D body: height 16.2, standoff 14.57, extent 4.98,-5.275 6.23,5.275
3D body: height 14.57, standoff 5.07, extent 1.53,-5.275 6.23,5.275
3D body: height 0, standoff -1.6, extent -2.24,-3.845 -1.76,-2.955
3D body: height 5.07, standoff 2.78, extent 3.64,-4 4.12,-2.8
3D body: height 2.78, standoff 2.3, extent -2.24,-4 4.12,-2.8
3D body: height 2.3, standoff 0, extent -2.24,-4 -1.76,-2.8
3D body: height 0, standoff -1.6, extent 1.76,-2.145 2.24,-1.255
3D body: height 5.07, standoff 2.78, extent 3.64,-2.3 4.12,-1.1
3D body: height 2.78, standoff 2.3, extent 1.76,-2.3 4.12,-1.1
3D body: height 2.3, standoff 0, extent 1.76,-2.3 2.24,-1.1
3D body: height 0, standoff -1.6, extent -2.24,-0.445 -1.76,0.445
3D body: height 5.07, standoff 2.78, extent 3.64,-0.6 4.12,0.6
3D body: height 2.78, standoff 2.3, extent -2.24,-0.6 4.12,0.6
3D body: height 2.3, standoff 0, extent -2.24,-0.6 -1.76,0.6
3D body: height 0, standoff -1.6, extent 1.76,1.255 2.24,2.145
3D body: height 5.07, standoff 2.78, extent 3.64,1.1 4.12,2.3
3D body: height 2.78, standoff 2.3, extent 1.76,1.1 4.12,2.3
3D body: height 2.3, standoff 0, extent 1.76,1.1 2.24,2.3
3D body: height 0, standoff -1.6, extent -2.24,2.955 -1.76,3.845
3D body: height 5.07, standoff 2.78, extent 3.64,2.8 4.12,4
3D body: height 2.78, standoff 2.3, extent -2.24,2.8 4.12,4
3D body: height 2.3, standoff 0, extent -2.24,2.8 -1.76,4

## TI-NDJ11 [mm] "FM, 11-Leads, Body 20.02x4.5mm, Pitch 1.7mm"
height 20.82
pads (11):
  rect 1.7x1.7 hole 1.1: 1(-2.54,8.5)
  round 1.7 hole 1.1: 2(2.54,6.8) 3(-2.54,5.1) 4(2.54,3.4) 5(-2.54,1.7) 6(2.54,0) 7(-2.54,-1.7) 8(2.54,-3.4) 9(-2.54,-5.1) 10(2.54,-6.8) 11(-2.54,-8.5)
Top Overlay:
  circle w0.25: c-2.54,9.9 r0.125
  lines w0.2: 2.155,-8.05 2.155,-10.15 6.855,-10.15 6.855,10.15 2.155,10.15 2.155,8.05 ; 6.355,-10.15 6.355,10.15
Mechanical 13:
  lines w0.1: 5.28,-10.15 5.28,10.15 ; 2.18,-10.15 2.18,10.15 6.83,10.15 6.83,-10.15 2.18,-10.15
Mechanical 15:
  lines w0.05: -3.64,-10.4 -3.64,10.4 7.08,10.4 7.08,-10.4 -3.64,-10.4
  lines w0.1: -0.5,0 0.5,0 ; 0,-0.5 0,0.5
3D body: height 1.14, standoff 0, extent -2.745,7.9 -2.335,9.1
3D body: height 1.55, standoff 1.14, extent -2.745,7.9 4.71,9.1
3D body: height 2.69, standoff 1.55, extent 4.3,7.9 4.71,9.1
3D body: height 0, standoff -1.6, extent -2.745,8.015 -2.335,8.985
3D body: height 1.14, standoff 0, extent 2.335,6.2 2.745,7.4
3D body: height 1.55, standoff 1.14, extent 2.335,6.2 4.71,7.4
3D body: height 2.69, standoff 1.55, extent 4.3,6.2 4.71,7.4
3D body: height 0, standoff -1.6, extent 2.335,6.315 2.745,7.285
3D body: height 1.14, standoff 0, extent -2.745,4.5 -2.335,5.7
3D body: height 1.55, standoff 1.14, extent -2.745,4.5 4.71,5.7
3D body: height 2.69, standoff 1.55, extent 4.3,4.5 4.71,5.7
3D body: height 0, standoff -1.6, extent -2.745,4.615 -2.335,5.585
3D body: height 1.14, standoff 0, extent 2.335,2.8 2.745,4
3D body: height 1.55, standoff 1.14, extent 2.335,2.8 4.71,4
3D body: height 2.69, standoff 1.55, extent 4.3,2.8 4.71,4
3D body: height 0, standoff -1.6, extent 2.335,2.915 2.745,3.885
3D body: height 1.14, standoff 0, extent -2.745,1.1 -2.335,2.3
3D body: height 1.55, standoff 1.14, extent -2.745,1.1 4.71,2.3
3D body: height 2.69, standoff 1.55, extent 4.3,1.1 4.71,2.3
3D body: height 0, standoff -1.6, extent -2.745,1.215 -2.335,2.185
3D body: height 1.14, standoff 0, extent 2.335,-0.6 2.745,0.6
3D body: height 1.55, standoff 1.14, extent 2.335,-0.6 4.71,0.6
3D body: height 2.69, standoff 1.55, extent 4.3,-0.6 4.71,0.6
3D body: height 0, standoff -1.6, extent 2.335,-0.485 2.745,0.485
3D body: height 1.14, standoff 0, extent -2.745,-2.3 -2.335,-1.1
3D body: height 1.55, standoff 1.14, extent -2.745,-2.3 4.71,-1.1
3D body: height 2.69, standoff 1.55, extent 4.3,-2.3 4.71,-1.1
3D body: height 0, standoff -1.6, extent -2.745,-2.185 -2.335,-1.215
3D body: height 1.14, standoff 0, extent 2.335,-4 2.745,-2.8
3D body: height 1.55, standoff 1.14, extent 2.335,-4 4.71,-2.8
3D body: height 2.69, standoff 1.55, extent 4.3,-4 4.71,-2.8
3D body: height 0, standoff -1.6, extent 2.335,-3.885 2.745,-2.915
3D body: height 1.14, standoff 0, extent -2.745,-5.7 -2.335,-4.5
3D body: height 1.55, standoff 1.14, extent -2.745,-5.7 4.71,-4.5
3D body: height 2.69, standoff 1.55, extent 4.3,-5.7 4.71,-4.5
3D body: height 0, standoff -1.6, extent -2.745,-5.585 -2.335,-4.615
3D body: height 1.14, standoff 0, extent 2.335,-7.4 2.745,-6.2
3D body: height 1.55, standoff 1.14, extent 2.335,-7.4 4.71,-6.2
3D body: height 2.69, standoff 1.55, extent 4.3,-7.4 4.71,-6.2
3D body: height 0, standoff -1.6, extent 2.335,-7.285 2.745,-6.315
3D body: height 1.14, standoff 0, extent -2.745,-9.1 -2.335,-7.9
3D body: height 1.55, standoff 1.14, extent -2.745,-9.1 4.71,-7.9
3D body: height 2.69, standoff 1.55, extent 4.3,-9.1 4.71,-7.9
3D body: height 0, standoff -1.6, extent -2.745,-8.985 -2.335,-8.015
3D body: height 14.02, standoff 2.69, extent 2.18,-10.15 6.83,10.15
3D body: height 16.12, standoff 14.02, extent 5.28,-10 6.83,10
3D body: height 16.16, standoff 16.12, extent 5.28,0.371 6.83,10
3D body: height 16.16, standoff 16.12, extent 5.28,-10 6.83,-0.371
3D body: height 19.92, standoff 19.88, extent 5.28,0.371 6.83,10
3D body: height 19.92, standoff 19.88, extent 5.28,-10 6.83,-0.371
3D body: height 16.27, standoff 16.16, extent 5.28,0.727 6.83,10
3D body: height 16.27, standoff 16.16, extent 5.28,-10 6.83,-0.727
3D body: height 19.89, standoff 19.78, extent 5.28,0.727 6.83,10
3D body: height 19.89, standoff 19.78, extent 5.28,-10 6.83,-0.727
3D body: height 16.45, standoff 16.26, extent 5.28,1.056 6.83,10
3D body: height 16.45, standoff 16.26, extent 5.28,-10 6.83,-1.056
3D body: height 19.78, standoff 19.6, extent 5.28,1.056 6.83,10
3D body: height 19.78, standoff 19.6, extent 5.28,-10 6.83,-1.056
3D body: height 16.68, standoff 16.44, extent 5.28,1.344 6.83,10
3D body: height 16.68, standoff 16.44, extent 5.28,-10 6.83,-1.344
3D body: height 19.6, standoff 19.36, extent 5.28,1.344 6.83,10
3D body: height 19.6, standoff 19.36, extent 5.28,-10 6.83,-1.344
3D body: height 16.97, standoff 16.68, extent 5.28,1.58 6.83,10
3D body: height 16.97, standoff 16.68, extent 5.28,-10 6.83,-1.58
3D body: height 19.37, standoff 19.08, extent 5.28,1.58 6.83,10
3D body: height 19.37, standoff 19.08, extent 5.28,-10 6.83,-1.58
3D body: height 17.3, standoff 16.96, extent 5.28,1.755 6.83,10
3D body: height 17.3, standoff 16.96, extent 5.28,-10 6.83,-1.755
3D body: height 19.08, standoff 18.75, extent 5.28,1.755 6.83,10
3D body: height 19.08, standoff 18.75, extent 5.28,-10 6.83,-1.755
3D body: height 17.65, standoff 17.29, extent 5.28,1.863 6.83,10
3D body: height 17.65, standoff 17.29, extent 5.28,-10 6.83,-1.863
3D body: height 18.75, standoff 18.39, extent 5.28,1.863 6.83,10
3D body: height 18.75, standoff 18.39, extent 5.28,-10 6.83,-1.863
3D body: height 18.02, standoff 17.65, extent 5.28,1.9 6.83,10
3D body: height 18.02, standoff 17.65, extent 5.28,-10 6.83,-1.9
3D body: height 18.4, standoff 18.02, extent 5.28,1.9 6.83,10
3D body: height 18.4, standoff 18.02, extent 5.28,-10 6.83,-1.9
3D body: height 20.82, standoff 19.92, extent 5.28,-10 6.83,10

## TI-NDL15 [mm] "FM, 15-Leads, Body 20.02x4.5mm, Pitch 1.27mm"
height 20.82
pads (15):
  rect 1.5x1.5 hole 0.9: 1(-2.54,8.89)
  round 1.5 hole 0.9: 2(2.54,7.62) 3(-2.54,6.35) 4(2.54,5.08) 5(-2.54,3.81) 6(2.54,2.54) 7(-2.54,1.27) 8(2.54,0) 9(-2.54,-1.27) 10(2.54,-2.54) 11(-2.54,-3.81) 12(2.54,-5.08) 13(-2.54,-6.35) 14(2.54,-7.62) 15(-2.54,-8.89)
Top Overlay:
  circle w0.25: c-2.54,10.19 r0.125
  lines w0.2: 2.155,-8.77 2.155,-10.15 6.855,-10.15 6.855,10.15 2.155,10.15 2.155,8.77 ; 6.355,-10.15 6.355,10.15
Mechanical 13:
  lines w0.1: 5.28,-10.15 5.28,10.15 ; 2.18,-10.15 2.18,10.15 6.83,10.15 6.83,-10.15 2.18,-10.15
Mechanical 15:
  lines w0.05: -3.54,-10.4 -3.54,10.4 7.08,10.4 7.08,-10.4 -3.54,-10.4
  lines w0.1: -0.5,0 0.5,0 ; 0,-0.5 0,0.5
3D body: height 1.14, standoff 0, extent -2.745,8.39 -2.335,9.39
3D body: height 1.55, standoff 1.14, extent -2.745,8.39 4.71,9.39
3D body: height 2.69, standoff 1.55, extent 4.3,8.39 4.71,9.39
3D body: height 0, standoff -1.6, extent -2.745,8.535 -2.335,9.245
3D body: height 1.14, standoff 0, extent 2.335,7.12 2.745,8.12
3D body: height 1.55, standoff 1.14, extent 2.335,7.12 4.71,8.12
3D body: height 2.69, standoff 1.55, extent 4.3,7.12 4.71,8.12
3D body: height 0, standoff -1.6, extent 2.335,7.265 2.745,7.975
3D body: height 1.14, standoff 0, extent -2.745,5.85 -2.335,6.85
3D body: height 1.55, standoff 1.14, extent -2.745,5.85 4.71,6.85
3D body: height 2.69, standoff 1.55, extent 4.3,5.85 4.71,6.85
3D body: height 0, standoff -1.6, extent -2.745,5.995 -2.335,6.705
3D body: height 1.14, standoff 0, extent 2.335,4.58 2.745,5.58
3D body: height 1.55, standoff 1.14, extent 2.335,4.58 4.71,5.58
3D body: height 2.69, standoff 1.55, extent 4.3,4.58 4.71,5.58
3D body: height 0, standoff -1.6, extent 2.335,4.725 2.745,5.435
3D body: height 1.14, standoff 0, extent -2.745,3.31 -2.335,4.31
3D body: height 1.55, standoff 1.14, extent -2.745,3.31 4.71,4.31
3D body: height 2.69, standoff 1.55, extent 4.3,3.31 4.71,4.31
3D body: height 0, standoff -1.6, extent -2.745,3.455 -2.335,4.165
3D body: height 1.14, standoff 0, extent 2.335,2.04 2.745,3.04
3D body: height 1.55, standoff 1.14, extent 2.335,2.04 4.71,3.04
3D body: height 2.69, standoff 1.55, extent 4.3,2.04 4.71,3.04
3D body: height 0, standoff -1.6, extent 2.335,2.185 2.745,2.895
3D body: height 1.14, standoff 0, extent -2.745,0.77 -2.335,1.77
3D body: height 1.55, standoff 1.14, extent -2.745,0.77 4.71,1.77
3D body: height 2.69, standoff 1.55, extent 4.3,0.77 4.71,1.77
3D body: height 0, standoff -1.6, extent -2.745,0.915 -2.335,1.625
3D body: height 1.14, standoff 0, extent 2.335,-0.5 2.745,0.5
3D body: height 1.55, standoff 1.14, extent 2.335,-0.5 4.71,0.5
3D body: height 2.69, standoff 1.55, extent 4.3,-0.5 4.71,0.5
3D body: height 0, standoff -1.6, extent 2.335,-0.355 2.745,0.355
3D body: height 1.14, standoff 0, extent -2.745,-1.77 -2.335,-0.77
3D body: height 1.55, standoff 1.14, extent -2.745,-1.77 4.71,-0.77
3D body: height 2.69, standoff 1.55, extent 4.3,-1.77 4.71,-0.77
3D body: height 0, standoff -1.6, extent -2.745,-1.625 -2.335,-0.915
3D body: height 1.14, standoff 0, extent 2.335,-3.04 2.745,-2.04
3D body: height 1.55, standoff 1.14, extent 2.335,-3.04 4.71,-2.04
3D body: height 2.69, standoff 1.55, extent 4.3,-3.04 4.71,-2.04
3D body: height 0, standoff -1.6, extent 2.335,-2.895 2.745,-2.185
3D body: height 1.14, standoff 0, extent -2.745,-4.31 -2.335,-3.31
3D body: height 1.55, standoff 1.14, extent -2.745,-4.31 4.71,-3.31
3D body: height 2.69, standoff 1.55, extent 4.3,-4.31 4.71,-3.31
3D body: height 0, standoff -1.6, extent -2.745,-4.165 -2.335,-3.455
3D body: height 1.14, standoff 0, extent 2.335,-5.58 2.745,-4.58
3D body: height 1.55, standoff 1.14, extent 2.335,-5.58 4.71,-4.58
3D body: height 2.69, standoff 1.55, extent 4.3,-5.58 4.71,-4.58
3D body: height 0, standoff -1.6, extent 2.335,-5.435 2.745,-4.725
3D body: height 1.14, standoff 0, extent -2.745,-6.85 -2.335,-5.85
3D body: height 1.55, standoff 1.14, extent -2.745,-6.85 4.71,-5.85
3D body: height 2.69, standoff 1.55, extent 4.3,-6.85 4.71,-5.85
3D body: height 0, standoff -1.6, extent -2.745,-6.705 -2.335,-5.995
3D body: height 1.14, standoff 0, extent 2.335,-8.12 2.745,-7.12
3D body: height 1.55, standoff 1.14, extent 2.335,-8.12 4.71,-7.12
3D body: height 2.69, standoff 1.55, extent 4.3,-8.12 4.71,-7.12
3D body: height 0, standoff -1.6, extent 2.335,-7.975 2.745,-7.265
3D body: height 1.14, standoff 0, extent -2.745,-9.39 -2.335,-8.39
3D body: height 1.55, standoff 1.14, extent -2.745,-9.39 4.71,-8.39
3D body: height 2.69, standoff 1.55, extent 4.3,-9.39 4.71,-8.39
3D body: height 0, standoff -1.6, extent -2.745,-9.245 -2.335,-8.535
3D body: height 14.02, standoff 2.69, extent 2.18,-10.15 6.83,10.15
3D body: height 16.12, standoff 14.02, extent 5.28,-10 6.83,10
3D body: height 16.16, standoff 16.12, extent 5.28,0.371 6.83,10
3D body: height 16.16, standoff 16.12, extent 5.28,-10 6.83,-0.371
3D body: height 19.92, standoff 19.88, extent 5.28,0.371 6.83,10
3D body: height 19.92, standoff 19.88, extent 5.28,-10 6.83,-0.371
3D body: height 16.27, standoff 16.16, extent 5.28,0.727 6.83,10
3D body: height 16.27, standoff 16.16, extent 5.28,-10 6.83,-0.727
3D body: height 19.89, standoff 19.78, extent 5.28,0.727 6.83,10
3D body: height 19.89, standoff 19.78, extent 5.28,-10 6.83,-0.727
3D body: height 16.45, standoff 16.26, extent 5.28,1.056 6.83,10
3D body: height 16.45, standoff 16.26, extent 5.28,-10 6.83,-1.056
3D body: height 19.78, standoff 19.6, extent 5.28,1.056 6.83,10
3D body: height 19.78, standoff 19.6, extent 5.28,-10 6.83,-1.056
3D body: height 16.68, standoff 16.44, extent 5.28,1.344 6.83,10
3D body: height 16.68, standoff 16.44, extent 5.28,-10 6.83,-1.344
3D body: height 19.6, standoff 19.36, extent 5.28,1.344 6.83,10
3D body: height 19.6, standoff 19.36, extent 5.28,-10 6.83,-1.344
3D body: height 16.97, standoff 16.68, extent 5.28,1.58 6.83,10
3D body: height 16.97, standoff 16.68, extent 5.28,-10 6.83,-1.58
3D body: height 19.37, standoff 19.08, extent 5.28,1.58 6.83,10
3D body: height 19.37, standoff 19.08, extent 5.28,-10 6.83,-1.58
3D body: height 17.3, standoff 16.96, extent 5.28,1.755 6.83,10
3D body: height 17.3, standoff 16.96, extent 5.28,-10 6.83,-1.755
3D body: height 19.08, standoff 18.75, extent 5.28,1.755 6.83,10
3D body: height 19.08, standoff 18.75, extent 5.28,-10 6.83,-1.755
3D body: height 17.65, standoff 17.29, extent 5.28,1.863 6.83,10
3D body: height 17.65, standoff 17.29, extent 5.28,-10 6.83,-1.863
3D body: height 18.75, standoff 18.39, extent 5.28,1.863 6.83,10
3D body: height 18.75, standoff 18.39, extent 5.28,-10 6.83,-1.863
3D body: height 18.02, standoff 17.65, extent 5.28,1.9 6.83,10
3D body: height 18.02, standoff 17.65, extent 5.28,-10 6.83,-1.9
3D body: height 18.4, standoff 18.02, extent 5.28,1.9 6.83,10
3D body: height 18.4, standoff 18.02, extent 5.28,-10 6.83,-1.9
3D body: height 20.82, standoff 19.92, extent 5.28,-10 6.83,10

## TI-NDM27_V [mm] "NDM, 27-Leads, Body 29.21x4.496mm, Pitch 1mm"
height 15.697
pads (27):
  rect 1.1x1.1 hole 0.8: 1(-13,-5.956)
  round 1.1 hole 0.8: 2(-12,-1.968) 3(-11,-5.956) 4(-10,-1.968) 5(-9,-5.956) 6(-8,-1.968) 7(-7,-5.956) 8(-6,-1.968) 9(-5,-5.956) 10(-4,-1.968) 11(-3,-5.956) 12(-2,-1.968) 13(-1,-5.956) 14(0,-1.968) 15(1,-5.956) 16(2,-1.968) 17(3,-5.956) 18(4,-1.968) 19(5,-5.956) 20(6,-1.968) 21(7,-5.956) 22(8,-1.968) 23(9,-5.956) 24(10,-1.968) 25(11,-5.956) 26(12,-1.968) 27(13,-5.956)
Top Overlay:
  circle w0.25: c-13,-7.056 r0.125
  lines w0.2: -13.462,-2.248 -14.605,-2.248 -14.605,2.248 14.605,2.248 14.605,-2.248 13.462,-2.248
Mechanical 13:
  lines w0.1: -14.605,-2.248 14.605,-2.248 14.605,2.248 -14.605,2.248 -14.605,-2.248
Mechanical 15:
  lines w0.05: -14.805,-6.731 -14.805,2.523 14.805,2.523 14.805,-6.731 -14.805,-6.731
  lines w0.1: -0.5,0 0.5,0 ; 0,-0.5 0,0.5
3D body: height 15.7, standoff 2.9, extent -14.605,-2.248 14.605,2.248